# Altium footprint library XF2M-2415-1A.PcbLib: 1 footprints
Each footprint in its own frame and in the unit in brackets; x right, y up, seen from the top. Pads: shape width x height; smd on the part's side, far side on the other; paste and mask are expansions set on the pad; w line width, h text height; cw(c..) or ccw(c..) is an arc to the next point about the centre after c.
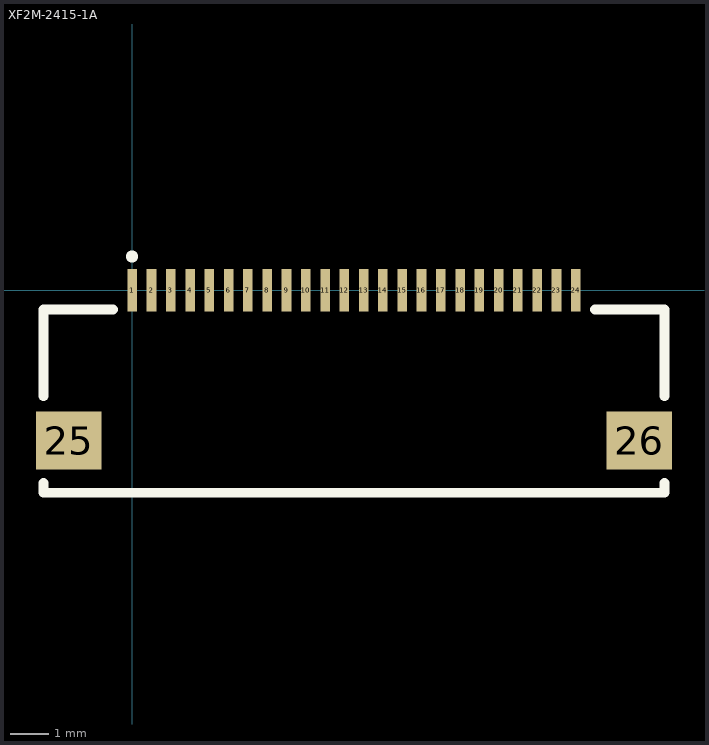
[diagram p0: the footprint, top view; thin cyan lines are the x and y axes]

## XF2M-2415-1A [mm]
pads (26):
  rect 0.249x1.1 smd: 1(0,0) 2(0.5,0) 3(1,0) 4(1.5,0) 5(2,0) 6(2.5,0) 7(3,0) 8(3.5,0) 9(4,0) 10(4.5,0) 11(5,0) 12(5.5,0) 13(6,0) 14(6.5,0) 15(7,0) 16(7.5,0) 17(8,0) 18(8.5,0) 19(9,0) 20(9.5,0) 21(10,0) 22(10.5,0) 23(11,0) 24(11.5,0)
  rect 1.699x1.501 smd: 25(-1.65,-3.9) 26(13.15,-3.9)
Top Overlay:
  circle w0.254: c-0.006,0.875 r0.031
  lines w0.254: -2.3,-5 -2.3,-5.25 13.8,-5.25 13.8,-5 ; -2.3,-2.75 -2.3,-0.5 -0.5,-0.5 ; 12,-0.5 13.8,-0.5 13.8,-2.75
3D body: height 2, standoff 0, extent -2.3,-4.85 13.8,1.05